# EAGLE library part PIC18F0XQ40 (library microchip_2022)
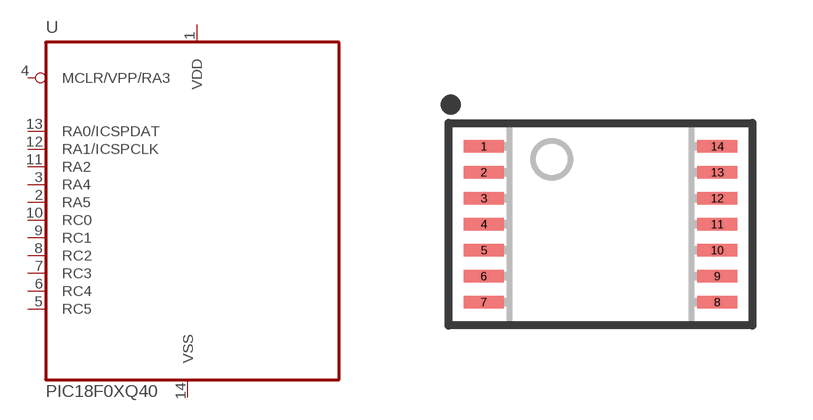
[diagram p1: symbol with the pads of TSSOP14; footprint TSSOP14]

Designator prefix -

## PIC18F0XQ40-I/ST  [TSSOP14]
1  VDD  pwr
2  RA5
3  RA4
4  MCLR/VPP/RA3  in
5  RC5
6  RC4
7  RC3
8  RC2
9  RC1
10  RC0
11  RA2
12  RA1/ICSPCLK
13  RA0/ICSPDAT
14  VSS  pwr

## Footprint TSSOP14 (pad centres in mm)
smd 0.991 x 0.305: 1 -2.918,1.95; 2 -2.918,1.3; 3 -2.918,0.65; 4 -2.918,0; 5 -2.918,-0.65; 6 -2.918,-1.3; 7 -2.918,-1.95; 8 2.918,-1.95; 9 2.918,-1.3; 10 2.918,-0.65; 11 2.918,0; 12 2.918,0.65; 13 2.918,1.3; 14 2.918,1.95